# Altium schematic symbol library Test.SchLib: 1 symbol
Pins are listed as number, name and electrical type; pins without a type are passive.

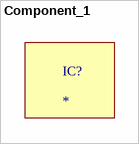
[diagram p0: symbol Component_1]

## Component_1
designator IC?
555 timer IC
footprint Model Name (Footprint not found)